# Altium integrated library WE-TFCH Common Mode Power Line Choke (Horizontal).IntLib: 7 symbols
Pins are listed as number, name and electrical type; pins without a type are passive.

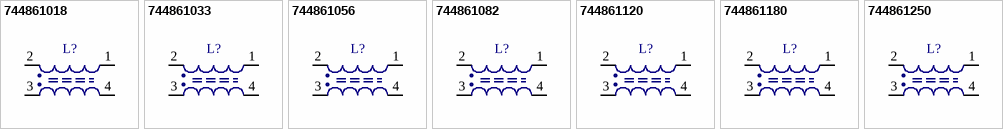
[diagram p0: symbols 744861018 to 744861250]

## 744861018
designator L?
Common Mode Power Line Choke Inductor WE-TFCH, L=1.8 µH; PartNumber: 744861018; Inductance: 1.8 µH; PackageReference: WE-TFCH Type UT; ComponentLink1Description: Manufacturer URL; ComponentLink1URL: http://www.we-online.com; ComponentLink2Description: Datasheet; ComponentLink2URL: http://katalog.we-online.de/pbs/datasheet/744861018.pdf
footprint WE-TFCH Type UT (Power Line Choke 4-Leads, TH, Body 17.0 x 15.23mm)
pins: 1, 2, 3, 4

## 744861033
designator L?
Common Mode Power Line Choke Inductor WE-TFCH, L=3.3 µH; PartNumber: 744861033; Inductance: 3.3 µH; PackageReference: WE-TFCH Type UT; ComponentLink1Description: Manufacturer URL; ComponentLink1URL: http://www.we-online.com; ComponentLink2Description: Datasheet; ComponentLink2URL: http://katalog.we-online.de/pbs/datasheet/744861033.pdf
footprint WE-TFCH Type UT (Power Line Choke 4-Leads, TH, Body 17.0 x 15.23mm)
pins: 1, 2, 3, 4

## 744861056
designator L?
Common Mode Power Line Choke Inductor WE-TFCH, L=5.6 µH; PartNumber: 744861056; Inductance: 5.6 µH; PackageReference: WE-TFCH Type UT; ComponentLink1Description: Manufacturer URL; ComponentLink1URL: http://www.we-online.com; ComponentLink2Description: Datasheet; ComponentLink2URL: http://katalog.we-online.de/pbs/datasheet/744861056.pdf
footprint WE-TFCH Type UT (Power Line Choke 4-Leads, TH, Body 17.0 x 15.23mm)
pins: 1, 2, 3, 4

## 744861082
designator L?
Common Mode Power Line Choke Inductor WE-TFCH, L=8.2 µH; PartNumber: 744861082; Inductance: 8.2 µH; PackageReference: WE-TFCH Type UT; ComponentLink1Description: Manufacturer URL; ComponentLink1URL: http://www.we-online.com; ComponentLink2Description: Datasheet; ComponentLink2URL: http://katalog.we-online.de/pbs/datasheet/744861082.pdf
footprint WE-TFCH Type UT (Power Line Choke 4-Leads, TH, Body 17.0 x 15.23mm)
pins: 1, 2, 3, 4

## 744861120
designator L?
Common Mode Power Line Choke Inductor WE-TFCH, L=12.0 µH; PartNumber: 744861120; Inductance: 12.0 µH; PackageReference: WE-TFCH Type UT; ComponentLink1Description: Manufacturer URL; ComponentLink1URL: http://www.we-online.com; ComponentLink2Description: Datasheet; ComponentLink2URL: http://katalog.we-online.de/pbs/datasheet/744861120.pdf
footprint WE-TFCH Type UT (Power Line Choke 4-Leads, TH, Body 17.0 x 15.23mm)
pins: 1, 2, 3, 4

## 744861180
designator L?
Common Mode Power Line Choke Inductor WE-TFCH, L=18.0 µH; PartNumber: 744861180; Inductance: 18.0 µH; PackageReference: WE-TFCH Type UT; ComponentLink1Description: Manufacturer URL; ComponentLink1URL: http://www.we-online.com; ComponentLink2Description: Datasheet; ComponentLink2URL: http://katalog.we-online.de/pbs/datasheet/744861180.pdf
footprint WE-TFCH Type UT (Power Line Choke 4-Leads, TH, Body 17.0 x 15.23mm)
pins: 1, 2, 3, 4

## 744861250
designator L?
Common Mode Power Line Choke Inductor WE-TFCH, L=25.0 µH; PartNumber: 744861250; Inductance: 25.0 µH; PackageReference: WE-TFCH Type UT; ComponentLink1Description: Manufacturer URL; ComponentLink1URL: http://www.we-online.com; ComponentLink2Description: Datasheet; ComponentLink2URL: http://katalog.we-online.de/pbs/datasheet/744861250.pdf
footprint WE-TFCH Type UT (Power Line Choke 4-Leads, TH, Body 17.0 x 15.23mm)
pins: 1, 2, 3, 4